# EAGLE library part ATMEGA_TQFP_32 (library SophiEaglev9)
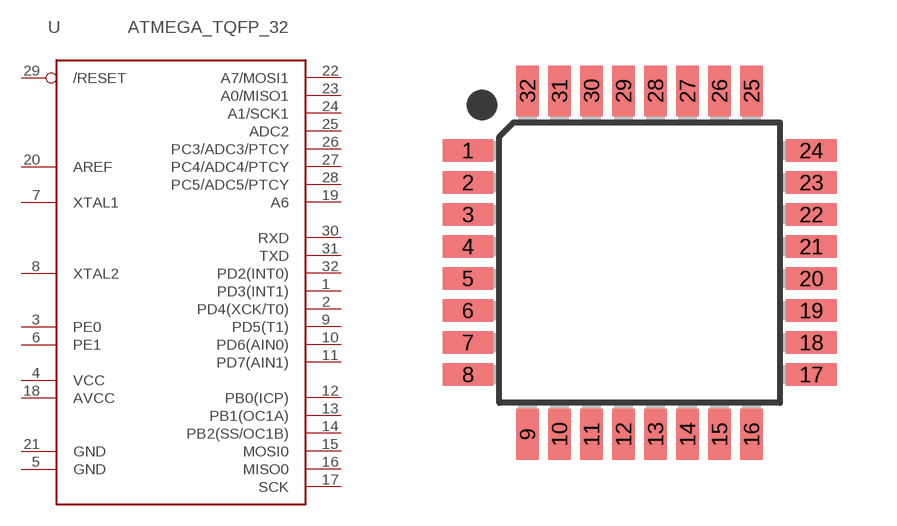
[diagram p10: symbol with the pads of 32_TQFP; footprint 32_TQFP]

Designator prefix -

## ATMEGA_TQFP_32  [32_TQFP]
1  PD3(INT1)
2  PD4(XCK/T0)
3  PE0
4  VCC
5  GND
6  PE1
7  XTAL1
8  XTAL2
9  PD5(T1)
10  PD6(AIN0)
11  PD7(AIN1)
12  PB0(ICP)
13  PB1(OC1A)
14  PB2(SS/OC1B)
15  MOSI0
16  MISO0
17  SCK
18  AVCC
19  A6
20  AREF
21  GND
22  A7/MOSI1
23  A0/MISO1
24  A1/SCK1
25  ADC2
26  PC3/ADC3/PTCY
27  PC4/ADC4/PTCY
28  PC5/ADC5/PTCY
29  /RESET
30  RXD
31  TXD
32  PD2(INT0)

## Footprint 32_TQFP (pad centres in mm)
smd 1.27 x 0.559: 1 -4.293,1.53; 2 -4.293,0.73; 3 -4.293,-0.07; 4 -4.293,-0.87; 5 -4.293,-1.67; 6 -4.293,-2.47; 7 -4.293,-3.27; 8 -4.293,-4.07; 17 4.293,-4.07; 18 4.293,-3.27; 19 4.293,-2.47; 20 4.293,-1.67; 21 4.293,-0.87; 22 4.293,-0.07; 23 4.293,0.73; 24 4.293,1.53
smd 0.559 x 1.27: 9 -2.8,-5.563; 10 -2,-5.563; 11 -1.2,-5.563; 12 -0.4,-5.563; 13 0.4,-5.563; 14 1.2,-5.563; 15 2,-5.563; 16 2.8,-5.563; 25 2.8,3.023; 26 2,3.023; 27 1.2,3.023; 28 0.4,3.023; 29 -0.4,3.023; 30 -1.2,3.023; 31 -2,3.023; 32 -2.8,3.023